# EAGLE library part WE-LAN_10G_749052051 (library Wurth_Signal & Communications_WE-LAN_10G)
WE-LAN 10G Transformer 10Gbit Base-T Characteristics Power over Ethernet up to 150 Watts and speeds up to 10 Gbit/s Available in SMD Compliant with standards: IEEE 802.3an, IEEE 802.3af, IEEE 802.3at and upcoming IEEE 802.3bt Applications Suitable for industrial temperatures from –40 °C up to +85 °C Compatible to Industrial Ethernet systems like EtherCAT or Profinet Compliant with most IC’s for Ethernet applications such as Microchip, Texas Instruments, Broadcom, Linear Technology Hubs, Routers, Switches, IP cameras, IoT applications HDBaseT <https://katalog.we-online.com/media/images/v2/o84657v209%20WE-LAN_749050010-749052012_4C%20-%20Kopie.jpg> Details see: https://katalog.we-online.com/en/pbs/WE-LAN-10G Updated by Ella Wu 2019-07-22 2019 (C) Würth Elektronik
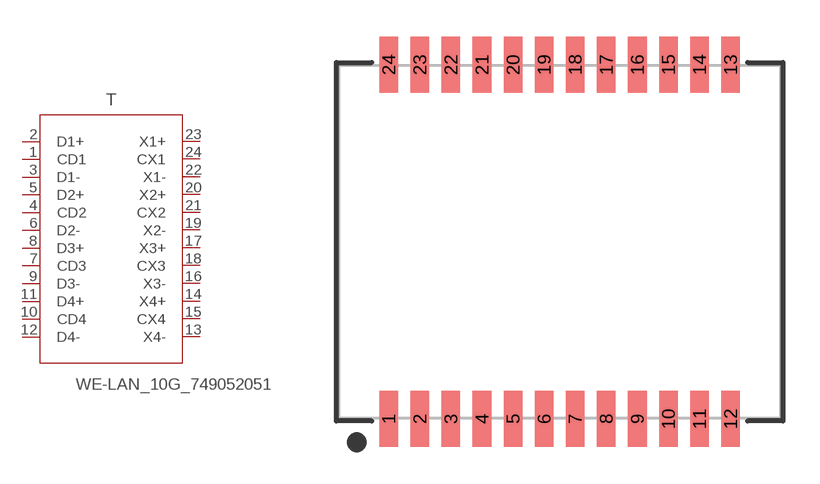
[diagram p3: symbol with the pads of WE-LAN_10G_749052051; footprint WE-LAN_10G_749052051]

Designator prefix T

## WE-LAN_10G_749052051 (DATA-RATE: 10G Base-T; DATASHEET-URL: https://katalog.we-online.com/pbs/datasheet/749052051.pdf; HPLE: No; L: 120uH; MOUNT: SMT; PART-NUMBER: 749052051; POE: PoE+ (up to 1 A); PORTS: 1; VT: 1500 V (RMS))  [WE-LAN_10G_749052051]
1  CD1
2  D1+
3  D1-
4  CD2
5  D2+
6  D2-
7  CD3
8  D3+
9  D3-
10  CD4
11  D4+
12  D4-
13  X4-
14  X4+
15  CX4
16  X3-
17  X3+
18  CX3
19  X2-
20  X2+
21  CX2
22  X1-
23  X1+
24  CX1

## Footprint WE-LAN_10G_749052051 (pad centres in mm)
WE-LAN 10G Transformer 10Gbit Base-T
smd 0.76 x 2.29: 1 -6.985,-7.24; 2 -5.715,-7.24; 3 -4.445,-7.24; 4 -3.175,-7.24; 5 -1.905,-7.24; 6 -0.635,-7.24; 7 0.635,-7.24; 8 1.905,-7.24; 9 3.175,-7.24; 10 4.445,-7.24; 11 5.715,-7.24; 12 6.985,-7.24; 13 6.985,7.24; 14 5.715,7.24; 15 4.445,7.24; 16 3.175,7.24; 17 1.905,7.24; 18 0.635,7.24; 19 -0.635,7.24; 20 -1.905,7.24; 21 -3.175,7.24; 22 -4.445,7.24; 23 -5.715,7.24; 24 -6.985,7.24